# EAGLE library part IV-27_L (library IV-27_L)
IV-27 VFD VACUUM TUBE
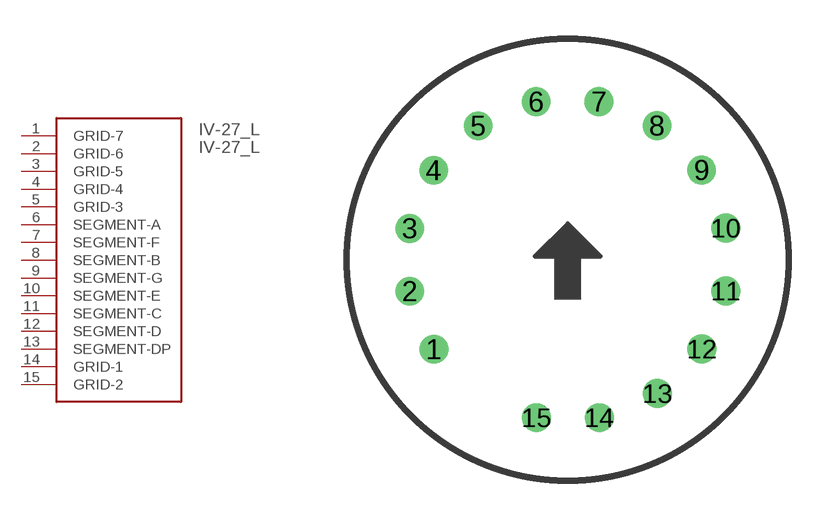
[diagram p0: symbol with the pads of IV-27_L; footprint IV-27_L]

Designator prefix IV-27_L

## IV-27_L (SIDE: LEFT)  [IV-27_L]
1  GRID-7
2  GRID-6
3  GRID-5
4  GRID-4
5  GRID-3
6  SEGMENT-A
7  SEGMENT-F
8  SEGMENT-B
9  SEGMENT-G
10  SEGMENT-E
11  SEGMENT-C
12  SEGMENT-D
13  SEGMENT-DP
14  GRID-1
15  GRID-2

## Footprint IV-27_L (pad centres in mm)
IV-27_LEFT
drill 0.6: 1 -5.149,-3.446; 2 -6.076,-1.211; 3 -6.078,1.208; 4 -5.155,3.443; 5 -3.446,5.155; 6 -1.211,6.083; 7 1.208,6.085; 8 3.443,5.161; 9 5.156,3.452; 10 6.083,1.218; 11 6.085,-1.201; 12 5.162,-3.437; 13 3.452,-5.149; 14 1.218,-6.076; 15 -1.201,-6.078